# EAGLE library part QTR_SENSORS (library qtr_sensors)
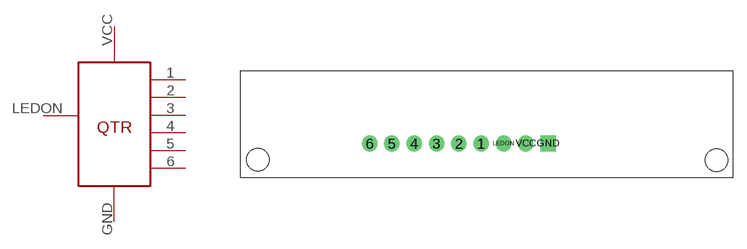
[diagram p0: symbol with the pads of QTR_6RC; footprint QTR_6RC]

Designator prefix -

## QTR_SENSORS  [QTR_6RC]
1  1
2  2
3  3
4  4
5  5
6  6
GND  GND
LEDON  LEDON
VCC  VCC

## Footprint QTR_6RC (pad centres in mm)
drill 1 pad 1.778: 1 -1.27,-2.54; 2 -3.81,-2.54; 3 -6.35,-2.54; 4 -8.89,-2.54; 5 -11.43,-2.54; 6 -13.97,-2.54; LEDON 1.27,-2.54; VCC 3.81,-2.54
drill 1 pad 1.778 square: GND 6.35,-2.54